# EAGLE library part OMAP35XTORPEDO (library user)
LogicPD OMAP35x Torpedo SOM
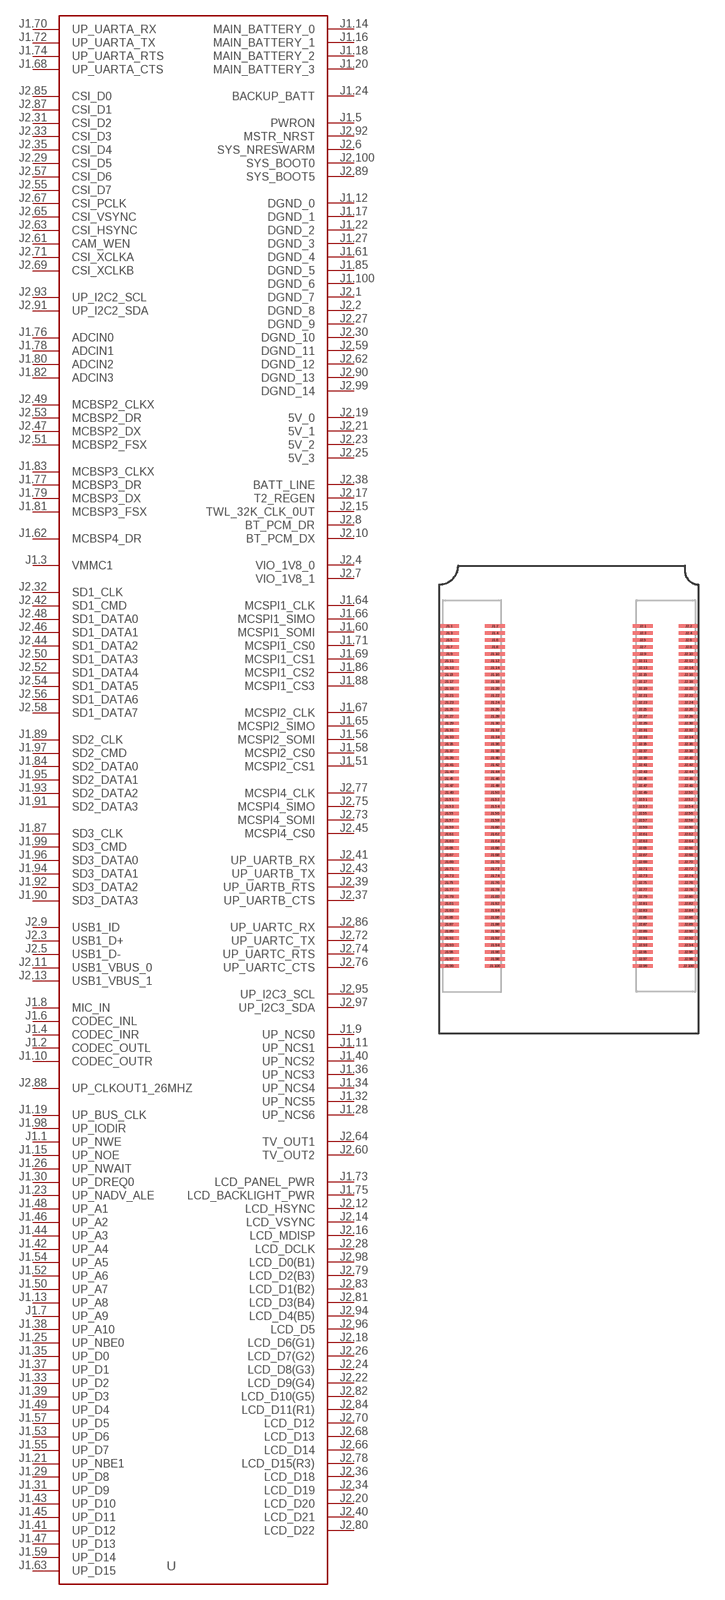
[diagram p0: symbol with the pads of OMAP35XTORPEDO; footprint OMAP35XTORPEDO]

Designator prefix -

## OMAP35XTORPEDO  [OMAP35XTORPEDO]
J1.1  UP_NWE
J1.2  CODEC_OUTL
J1.3  VMMC1
J1.4  CODEC_INR
J1.5  PWRON  in
J1.6  CODEC_INL
J1.7  UP_A9
J1.8  MIC_IN
J1.9  UP_NCS0
J1.10  CODEC_OUTR
J1.11  UP_NCS1
J1.12  DGND_0  pas
J1.13  UP_A8
J1.14  MAIN_BATTERY_0  pwr
J1.15  UP_NOE
J1.16  MAIN_BATTERY_1  pwr
J1.17  DGND_1  pas
J1.18  MAIN_BATTERY_2  pwr
J1.19  UP_BUS_CLK
J1.20  MAIN_BATTERY_3  pwr
J1.21  UP_NBE1
J1.22  DGND_2  pas
J1.23  UP_NADV_ALE
J1.24  BACKUP_BATT  pwr
J1.25  UP_NBE0
J1.26  UP_NWAIT
J1.27  DGND_3  pas
J1.28  UP_NCS6
J1.29  UP_D8
J1.30  UP_DREQ0
J1.31  UP_D9
J1.32  UP_NCS5
J1.33  UP_D2
J1.34  UP_NCS4
J1.35  UP_D0
J1.36  UP_NCS3
J1.37  UP_D1
J1.38  UP_A10
J1.39  UP_D3
J1.40  UP_NCS2
J1.41  UP_D12
J1.42  UP_A4
J1.43  UP_D10
J1.44  UP_A3
J1.45  UP_D11
J1.46  UP_A2
J1.47  UP_D13
J1.48  UP_A1
J1.49  UP_D4
J1.50  UP_A7
J1.51  MCSPI2_CS1
J1.52  UP_A6
J1.53  UP_D6
J1.54  UP_A5
J1.55  UP_D7
J1.56  MCSPI2_SOMI
J1.57  UP_D5
J1.58  MCSPI2_CS0
J1.59  UP_D14
J1.60  MCSPI1_SOMI
J1.61  DGND_4  pas
J1.62  MCBSP4_DR
J1.63  UP_D15
J1.64  MCSPI1_CLK
J1.65  MCSPI2_SIMO
J1.66  MCSPI1_SIMO
J1.67  MCSPI2_CLK
J1.68  UP_UARTA_CTS
J1.69  MCSPI1_CS1
J1.70  UP_UARTA_RX
J1.71  MCSPI1_CS0
J1.72  UP_UARTA_TX
J1.73  LCD_PANEL_PWR
J1.74  UP_UARTA_RTS
J1.75  LCD_BACKLIGHT_PWR
J1.76  ADCIN0
J1.77  MCBSP3_DR
J1.78  ADCIN1
J1.79  MCBSP3_DX
J1.80  ADCIN2
J1.81  MCBSP3_FSX
J1.82  ADCIN3
J1.83  MCBSP3_CLKX
J1.84  SD2_DATA0
J1.85  DGND_5  pas
J1.86  MCSPI1_CS2
J1.87  SD3_CLK
J1.88  MCSPI1_CS3
J1.89  SD2_CLK
J1.90  SD3_DATA3
J1.91  SD2_DATA3
J1.92  SD3_DATA2
J1.93  SD2_DATA2
J1.94  SD3_DATA1
J1.95  SD2_DATA1
J1.96  SD3_DATA0
J1.97  SD2_CMD
J1.98  UP_IODIR
J1.99  SD3_CMD
J1.100  DGND_6  pas
J2.1  DGND_7  pas
J2.2  DGND_8  pas
J2.3  USB1_D+
J2.4  VIO_1V8_0
J2.5  USB1_D-
J2.6  SYS_NRESWARM  out
J2.7  VIO_1V8_1
J2.8  BT_PCM_DR
J2.9  USB1_ID
J2.10  BT_PCM_DX
J2.11  USB1_VBUS_0
J2.12  LCD_HSYNC
J2.13  USB1_VBUS_1
J2.14  LCD_VSYNC
J2.15  TWL_32K_CLK_0UT
J2.16  LCD_MDISP
J2.17  T2_REGEN
J2.18  LCD_D6(G1)
J2.19  5V_0
J2.20  LCD_D20
J2.21  5V_1
J2.22  LCD_D9(G4)
J2.23  5V_2
J2.24  LCD_D8(G3)
J2.25  5V_3
J2.26  LCD_D7(G2)
J2.27  DGND_9
J2.28  LCD_DCLK
J2.29  CSI_D5
J2.30  DGND_10
J2.31  CSI_D2
J2.32  SD1_CLK
J2.33  CSI_D3
J2.34  LCD_D19
J2.35  CSI_D4
J2.36  LCD_D18
J2.37  UP_UARTB_CTS
J2.38  BATT_LINE
J2.39  UP_UARTB_RTS
J2.40  LCD_D21
J2.41  UP_UARTB_RX
J2.42  SD1_CMD
J2.43  UP_UARTB_TX
J2.44  SD1_DATA2
J2.45  MCSPI4_CS0
J2.46  SD1_DATA1
J2.47  MCBSP2_DX
J2.48  SD1_DATA0
J2.49  MCBSP2_CLKX
J2.50  SD1_DATA3
J2.51  MCBSP2_FSX
J2.52  SD1_DATA4
J2.53  MCBSP2_DR
J2.54  SD1_DATA5
J2.55  CSI_D7
J2.56  SD1_DATA6
J2.57  CSI_D6
J2.58  SD1_DATA7
J2.59  DGND_11
J2.60  TV_OUT2
J2.61  CAM_WEN
J2.62  DGND_12
J2.63  CSI_HSYNC
J2.64  TV_OUT1
J2.65  CSI_VSYNC
J2.66  LCD_D14
J2.67  CSI_PCLK
J2.68  LCD_D13
J2.69  CSI_XCLKB
J2.70  LCD_D12
J2.71  CSI_XCLKA
J2.72  UP_UARTC_TX
J2.73  MCSPI4_SOMI
J2.74  UP_UARTC_RTS
J2.75  MCSPI4_SIMO
J2.76  UP_UARTC_CTS
J2.77  MCSPI4_CLK
J2.78  LCD_D15(R3)
J2.79  LCD_D2(B3)
J2.80  LCD_D22
J2.81  LCD_D3(B4)
J2.82  LCD_D10(G5)
J2.83  LCD_D1(B2)
J2.84  LCD_D11(R1)
J2.85  CSI_D0
J2.86  UP_UARTC_RX
J2.87  CSI_D1
J2.88  UP_CLKOUT1_26MHZ
J2.89  SYS_BOOT5  in
J2.90  DGND_13
J2.91  UP_I2C2_SDA
J2.92  MSTR_NRST  in
J2.93  UP_I2C2_SCL
J2.94  LCD_D4(B5)
J2.95  UP_I2C3_SCL
J2.96  LCD_D5
J2.97  UP_I2C3_SDA
J2.98  LCD_D0(B1)
J2.99  DGND_14
J2.100  SYS_BOOT0  in

## Footprint OMAP35XTORPEDO (pad centres in mm)
smd 1.14 x 0.2: J1.1 -1.32,9.8; J1.2 1.32,9.8; J1.3 -1.32,9.4; J1.4 1.32,9.4; J1.5 -1.32,9; J1.6 1.32,9; J1.7 -1.32,8.6; J1.8 1.32,8.6; J1.9 -1.32,8.2; J1.10 1.32,8.2; J1.11 -1.32,7.8; J1.12 1.32,7.8; J1.13 -1.32,7.4; J1.14 1.32,7.4; J1.15 -1.32,7; J1.16 1.32,7; J1.17 -1.32,6.6; J1.18 1.32,6.6; J1.19 -1.32,6.2; J1.20 1.32,6.2; J1.21 -1.32,5.8; J1.22 1.32,5.8; J1.23 -1.32,5.4; J1.24 1.32,5.4; J1.25 -1.32,5; J1.26 1.32,5; J1.27 -1.32,4.6; J1.28 1.32,4.6; J1.29 -1.32,4.2; J1.30 1.32,4.2; J1.31 -1.32,3.8; J1.32 1.32,3.8; J1.33 -1.32,3.4; J1.34 1.32,3.4; J1.35 -1.32,3; J1.36 1.32,3; J1.37 -1.32,2.6; J1.38 1.32,2.6; J1.39 -1.32,2.2; J1.40 1.32,2.2; J1.41 -1.32,1.8; J1.42 1.32,1.8; J1.43 -1.32,1.4; J1.44 1.32,1.4; J1.45 -1.32,1; J1.46 1.32,1; J1.47 -1.32,0.6; J1.48 1.32,0.6; J1.49 -1.32,0.2; J1.50 1.32,0.2; J1.51 -1.32,-0.2; J1.52 1.32,-0.2; J1.53 -1.32,-0.6; J1.54 1.32,-0.6; J1.55 -1.32,-1; J1.56 1.32,-1; J1.57 -1.32,-1.4; J1.58 1.32,-1.4; J1.59 -1.32,-1.8; J1.60 1.32,-1.8; J1.61 -1.32,-2.2; J1.62 1.32,-2.2; J1.63 -1.32,-2.6; J1.64 1.32,-2.6; J1.65 -1.32,-3; J1.66 1.32,-3; J1.67 -1.32,-3.4; J1.68 1.32,-3.4; J1.69 -1.32,-3.8; J1.70 1.32,-3.8; J1.71 -1.32,-4.2; J1.72 1.32,-4.2; J1.73 -1.32,-4.6; J1.74 1.32,-4.6; J1.75 -1.32,-5; J1.76 1.32,-5; J1.77 -1.32,-5.4; J1.78 1.32,-5.4; J1.79 -1.32,-5.8; J1.80 1.32,-5.8; J1.81 -1.32,-6.2; J1.82 1.32,-6.2; J1.83 -1.32,-6.6; J1.84 1.32,-6.6; J1.85 -1.32,-7; J1.86 1.32,-7; J1.87 -1.32,-7.4; J1.88 1.32,-7.4; J1.89 -1.32,-7.8; J1.90 1.32,-7.8; J1.91 -1.32,-8.2; J1.92 1.32,-8.2; J1.93 -1.32,-8.6; J1.94 1.32,-8.6; J1.95 -1.32,-9; J1.96 1.32,-9; J1.97 -1.32,-9.4; J1.98 1.32,-9.4; J1.99 -1.32,-9.8; J1.100 1.32,-9.8; J2.1 9.86,9.8; J2.2 12.5,9.8; J2.3 9.86,9.4; J2.4 12.5,9.4; J2.5 9.86,9; J2.6 12.5,9; J2.7 9.86,8.6; J2.8 12.5,8.6; J2.9 9.86,8.2; J2.10 12.5,8.2; J2.11 9.86,7.8; J2.12 12.5,7.8; J2.13 9.86,7.4; J2.14 12.5,7.4; J2.15 9.86,7; J2.16 12.5,7; J2.17 9.86,6.6; J2.18 12.5,6.6; J2.19 9.86,6.2; J2.20 12.5,6.2; J2.21 9.86,5.8; J2.22 12.5,5.8; J2.23 9.86,5.4; J2.24 12.5,5.4; J2.25 9.86,5; J2.26 12.5,5; J2.27 9.86,4.6; J2.28 12.5,4.6; J2.29 9.86,4.2; J2.30 12.5,4.2; J2.31 9.86,3.8; J2.32 12.5,3.8; J2.33 9.86,3.4; J2.34 12.5,3.4; J2.35 9.86,3; J2.36 12.5,3; J2.37 9.86,2.6; J2.38 12.5,2.6; J2.39 9.86,2.2; J2.40 12.5,2.2; J2.41 9.86,1.8; J2.42 12.5,1.8; J2.43 9.86,1.4; J2.44 12.5,1.4; J2.45 9.86,1; J2.46 12.5,1; J2.47 9.86,0.6; J2.48 12.5,0.6; J2.49 9.86,0.2; J2.50 12.5,0.2; J2.51 9.86,-0.2; J2.52 12.5,-0.2; J2.53 9.86,-0.6; J2.54 12.5,-0.6; J2.55 9.86,-1; J2.56 12.5,-1; J2.57 9.86,-1.4; J2.58 12.5,-1.4; J2.59 9.86,-1.8; J2.60 12.5,-1.8; J2.61 9.86,-2.2; J2.62 12.5,-2.2; J2.63 9.86,-2.6; J2.64 12.5,-2.6; J2.65 9.86,-3; J2.66 12.5,-3; J2.67 9.86,-3.4; J2.68 12.5,-3.4; J2.69 9.86,-3.8; J2.70 12.5,-3.8; J2.71 9.86,-4.2; J2.72 12.5,-4.2; J2.73 9.86,-4.6; J2.74 12.5,-4.6; J2.75 9.86,-5; J2.76 12.5,-5; J2.77 9.86,-5.4; J2.78 12.5,-5.4; J2.79 9.86,-5.8; J2.80 12.5,-5.8; J2.81 9.86,-6.2; J2.82 12.5,-6.2; J2.83 9.86,-6.6; J2.84 12.5,-6.6; J2.85 9.86,-7; J2.86 12.5,-7; J2.87 9.86,-7.4; J2.88 12.5,-7.4; J2.89 9.86,-7.8; J2.90 12.5,-7.8; J2.91 9.86,-8.2; J2.92 12.5,-8.2; J2.93 9.86,-8.6; J2.94 12.5,-8.6; J2.95 9.86,-9; J2.96 12.5,-9; J2.97 9.86,-9.4; J2.98 12.5,-9.4; J2.99 9.86,-9.8; J2.100 12.5,-9.8